# Altium footprint library PowerManagement.PcbLib: 12 footprints
Each footprint in its own frame and in the unit in brackets; x right, y up, seen from the top. Pads: shape width x height; smd on the part's side, far side on the other; paste and mask are expansions set on the pad; w line width, h text height; cw(c..) or ccw(c..) is an arc to the next point about the centre after c.
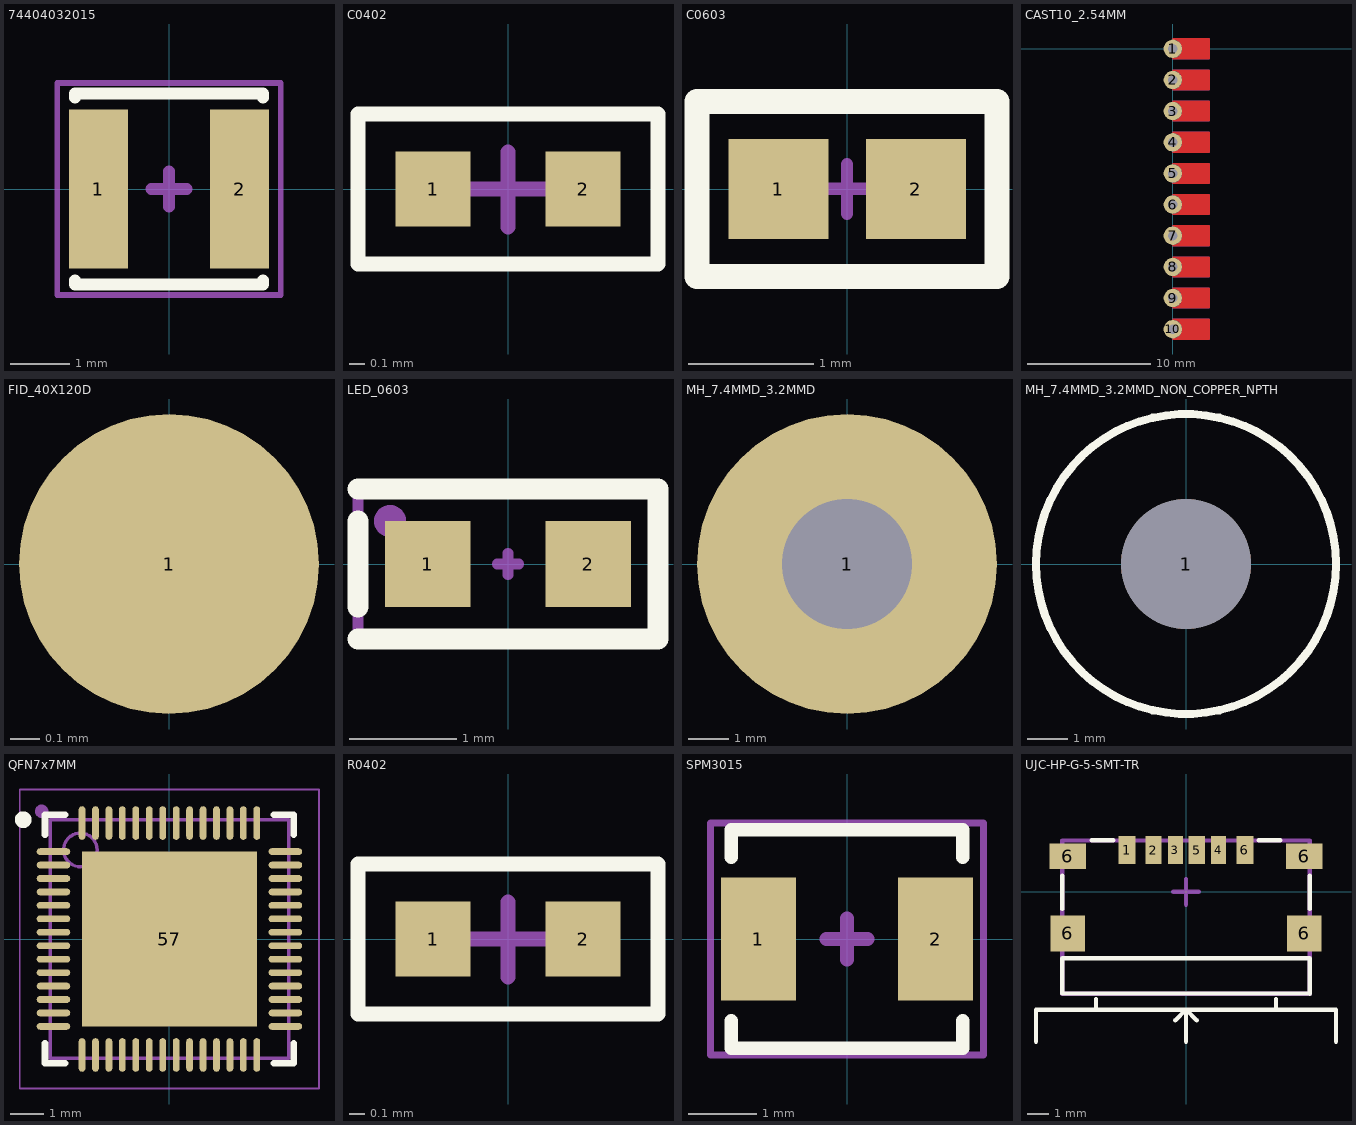
[diagram p0: the footprints below, top view; thin cyan lines are the x and y axes]

## 74404032015 [mm]
pads (2):
  rect 1x2.7 smd: 1(-1.2,0) 2(1.2,0)
Top Overlay:
  lines w0.2: -1.6,-1.55 -1.6,-1.625 -1.5,-1.625 1.5,-1.625 1.6,-1.625 1.6,-1.55 ; -1.6,1.55 -1.6,1.625 -1.5,1.625 1.5,1.625 1.6,1.625 1.6,1.55
Mechanical 15:
  lines w0.1: -1.9,-1.8 1.9,-1.8 1.9,1.8 -1.9,1.8 -1.9,-1.8
  lines w0.2: -0.3,0 0.3,0 ; 0,-0.3 0,0.3
  text "'.Designator'" at 0.1,0.233 h0.4
3D body "o54937v246 WE-LQS_3015_LQS (rev1).stp": height 1.51, standoff 0.01, extent -1.5,-1.5 1.5,1.5

## C0402 [mm]
pads (2):
  rect 0.5x0.5 smd: 1(-0.5,0) 2(0.5,0)
Top Overlay:
  lines w0.1: -1,-0.5 -1,0.5 1,0.5 1,-0.5 -1,-0.5
Mechanical 15:
  lines w0.05: -1,-0.5 1,-0.5 1,0.5 -1,0.5 -1,-0.5
  lines w0.1: -0.246,0 0.254,0 ; 0,-0.254 0,0.246
  text "'.Designator'" at 0.05,0.117 h0.2
3D body "CC0402MRX5R5BB106.step": height 0.55, standoff 0, extent -0.5,-0.25 0.5,0.25

## C0603 [mm]
pads (2):
  rect 0.8x0.8 smd: 1(-0.55,0) 2(0.55,0)
Top Overlay:
  lines w0.2: -1.2,-0.7 1.2,-0.7 1.2,0.7 -1.2,0.7 -1.2,-0.7
Mechanical 15:
  lines w0.05: -1.2,-0.7 1.2,-0.7 1.2,0.7 -1.2,0.7 -1.2,-0.7
  lines w0.1: -0.184,0.001 0.216,0.001 ; 0,-0.2 0,0.2
  text "'.Designator'" at 0.1,0.234 h0.4
3D body "CAPC1608X90N.step": height 0.91, standoff 0.01, extent -0.8,-0.4 0.8,0.4

## CAST10_2.54MM [mm]
pads (10):
  round 1.5 hole 0.76 mask+0: 1(0,0) 2(0,-2.54) 3(0,-5.08) 4(0,-7.62) 5(0,-10.16) 6(0,-12.7) 7(0,-15.24) 8(0,-17.78) 9(0,-20.32) 10(0,-22.86)
Top Layer:
  region: 0,-10.96 2.946,-10.96 2.946,-9.36 0,-9.36 0.104,-9.367 0.306,-9.421 0.487,-9.525 0.635,-9.673 0.739,-9.854 0.793,-10.056 0.793,-10.264 0.739,-10.466 0.635,-10.647 0.487,-10.795 0.306,-10.899 0.104,-10.953
  region: 0,-21.12 2.946,-21.12 2.946,-19.52 0,-19.52 0.104,-19.527 0.306,-19.581 0.487,-19.685 0.635,-19.833 0.739,-20.014 0.793,-20.216 0.793,-20.424 0.739,-20.626 0.635,-20.807 0.487,-20.955 0.306,-21.059 0.104,-21.113
  region: 0,-0.8 2.946,-0.8 2.946,0.8 0,0.8 0.104,0.793 0.306,0.739 0.487,0.635 0.635,0.487 0.739,0.306 0.793,0.104 0.793,-0.104 0.739,-0.306 0.635,-0.487 0.487,-0.635 0.306,-0.739 0.104,-0.793
  region: 0,-3.34 2.946,-3.34 2.946,-1.74 0,-1.74 0.104,-1.747 0.306,-1.801 0.487,-1.905 0.635,-2.053 0.739,-2.234 0.793,-2.436 0.793,-2.644 0.739,-2.846 0.635,-3.027 0.487,-3.175 0.306,-3.279 0.104,-3.333
  region: 0,-5.88 2.946,-5.88 2.946,-4.28 0,-4.28 0.104,-4.287 0.306,-4.341 0.487,-4.445 0.635,-4.593 0.739,-4.774 0.793,-4.976 0.793,-5.184 0.739,-5.386 0.635,-5.567 0.487,-5.715 0.306,-5.819 0.104,-5.873
  region: 0,-8.42 2.946,-8.42 2.946,-6.82 0,-6.82 0.104,-6.827 0.306,-6.881 0.487,-6.985 0.635,-7.133 0.739,-7.314 0.793,-7.516 0.793,-7.724 0.739,-7.926 0.635,-8.107 0.487,-8.255 0.306,-8.359 0.104,-8.413
  region: 0,-13.5 2.946,-13.5 2.946,-11.9 0,-11.9 0.104,-11.907 0.306,-11.961 0.487,-12.065 0.635,-12.213 0.739,-12.394 0.793,-12.596 0.793,-12.804 0.739,-13.006 0.635,-13.187 0.487,-13.335 0.306,-13.439 0.104,-13.493
  region: 0,-16.04 2.946,-16.04 2.946,-14.44 0,-14.44 0.104,-14.447 0.306,-14.501 0.487,-14.605 0.635,-14.753 0.739,-14.934 0.793,-15.136 0.793,-15.344 0.739,-15.546 0.635,-15.727 0.487,-15.875 0.306,-15.979 0.104,-16.033
  region: 0,-18.58 2.946,-18.58 2.946,-16.98 0,-16.98 0.104,-16.987 0.306,-17.041 0.487,-17.145 0.635,-17.293 0.739,-17.474 0.793,-17.676 0.793,-17.884 0.739,-18.086 0.635,-18.267 0.487,-18.415 0.306,-18.519 0.104,-18.573
  region: 0,-23.66 2.946,-23.66 2.946,-22.06 0,-22.06 0.104,-22.067 0.306,-22.121 0.487,-22.225 0.635,-22.373 0.739,-22.554 0.793,-22.756 0.793,-22.964 0.739,-23.166 0.635,-23.347 0.487,-23.495 0.306,-23.599 0.104,-23.653
  lines w0.127: 0,-23.66 ccw(c0,-22.86) 0,-22.06 2.946,-22.06 2.946,-23.66 0,-23.66 ; 0,-21.12 ccw(c0,-20.32) 0,-19.52 2.946,-19.52 2.946,-21.12 0,-21.12 ; 0,-18.58 ccw(c0,-17.78) 0,-16.98 2.946,-16.98 2.946,-18.58 0,-18.58 ; 0,-16.04 ccw(c0,-15.24) 0,-14.44 2.946,-14.44 2.946,-16.04 0,-16.04 ; 0,-13.5 ccw(c0,-12.7) 0,-11.9 2.946,-11.9 2.946,-13.5 0,-13.5 ; 0,-10.96 ccw(c0,-10.16) 0,-9.36 2.946,-9.36 2.946,-10.96 0,-10.96 ; 0,-8.42 ccw(c0,-7.62) 0,-6.82 2.946,-6.82 2.946,-8.42 0,-8.42 ; 0,-5.88 ccw(c0,-5.08) 0,-4.28 2.946,-4.28 2.946,-5.88 0,-5.88 ; 0,-3.34 ccw(c0,-2.54) 0,-1.74 2.946,-1.74 2.946,-3.34 0,-3.34 ; 0,-0.8 ccw(c0,0) 0,0.8 2.946,0.8 2.946,-0.8 0,-0.8
Bottom Layer:
  region: 0,0.8 2.946,0.8 2.946,-0.8 0,-0.8 0.104,-0.793 0.306,-0.739 0.487,-0.635 0.635,-0.487 0.739,-0.306 0.793,-0.104 0.793,0.104 0.739,0.306 0.635,0.487 0.487,0.635 0.306,0.739 0.104,0.793
  region: 0,-4.28 2.946,-4.28 2.946,-5.88 0,-5.88 0.104,-5.873 0.306,-5.819 0.487,-5.715 0.635,-5.567 0.739,-5.386 0.793,-5.184 0.793,-4.976 0.739,-4.774 0.635,-4.593 0.487,-4.445 0.306,-4.341 0.104,-4.287
  region: 0,-6.82 2.946,-6.82 2.946,-8.42 0,-8.42 0.104,-8.413 0.306,-8.359 0.487,-8.255 0.635,-8.107 0.739,-7.926 0.793,-7.724 0.793,-7.516 0.739,-7.314 0.635,-7.133 0.487,-6.985 0.306,-6.881 0.104,-6.827
  region: 0,-9.36 2.946,-9.36 2.946,-10.96 0,-10.96 0.104,-10.953 0.306,-10.899 0.487,-10.795 0.635,-10.647 0.739,-10.466 0.793,-10.264 0.793,-10.056 0.739,-9.854 0.635,-9.673 0.487,-9.525 0.306,-9.421 0.104,-9.367
  region: 0,-11.9 2.946,-11.9 2.946,-13.5 0,-13.5 0.104,-13.493 0.306,-13.439 0.487,-13.335 0.635,-13.187 0.739,-13.006 0.793,-12.804 0.793,-12.596 0.739,-12.394 0.635,-12.213 0.487,-12.065 0.306,-11.961 0.104,-11.907
  region: 0,-14.44 2.946,-14.44 2.946,-16.04 0,-16.04 0.104,-16.033 0.306,-15.979 0.487,-15.875 0.635,-15.727 0.739,-15.546 0.793,-15.344 0.793,-15.136 0.739,-14.934 0.635,-14.753 0.487,-14.605 0.306,-14.501 0.104,-14.447
  region: 0,-16.98 2.946,-16.98 2.946,-18.58 0,-18.58 0.104,-18.573 0.306,-18.519 0.487,-18.415 0.635,-18.267 0.739,-18.086 0.793,-17.884 0.793,-17.676 0.739,-17.474 0.635,-17.293 0.487,-17.145 0.306,-17.041 0.104,-16.987
  region: 0,-19.52 2.946,-19.52 2.946,-21.12 0,-21.12 0.104,-21.113 0.306,-21.059 0.487,-20.955 0.635,-20.807 0.739,-20.626 0.793,-20.424 0.793,-20.216 0.739,-20.014 0.635,-19.833 0.487,-19.685 0.306,-19.581 0.104,-19.527
  region: 0,-22.06 2.946,-22.06 2.946,-23.66 0,-23.66 0.104,-23.653 0.306,-23.599 0.487,-23.495 0.635,-23.347 0.739,-23.166 0.793,-22.964 0.793,-22.756 0.739,-22.554 0.635,-22.373 0.487,-22.225 0.306,-22.121 0.104,-22.067
  region: 0,-1.74 2.946,-1.74 2.946,-3.34 0,-3.34 0.104,-3.333 0.306,-3.279 0.487,-3.175 0.635,-3.027 0.739,-2.846 0.793,-2.644 0.793,-2.436 0.739,-2.234 0.635,-2.053 0.487,-1.905 0.306,-1.801 0.104,-1.747
  lines w0.127: 0,-23.66 ccw(c0,-22.86) 0,-22.06 2.946,-22.06 2.946,-23.66 0,-23.66 ; 0,-21.12 ccw(c0,-20.32) 0,-19.52 2.946,-19.52 2.946,-21.12 0,-21.12 ; 0,-18.58 ccw(c0,-17.78) 0,-16.98 2.946,-16.98 2.946,-18.58 0,-18.58 ; 0,-16.04 ccw(c0,-15.24) 0,-14.44 2.946,-14.44 2.946,-16.04 0,-16.04 ; 0,-13.5 ccw(c0,-12.7) 0,-11.9 2.946,-11.9 2.946,-13.5 0,-13.5 ; 0,-10.96 ccw(c0,-10.16) 0,-9.36 2.946,-9.36 2.946,-10.96 0,-10.96 ; 0,-8.42 ccw(c0,-7.62) 0,-6.82 2.946,-6.82 2.946,-8.42 0,-8.42 ; 0,-5.88 ccw(c0,-5.08) 0,-4.28 2.946,-4.28 2.946,-5.88 0,-5.88 ; 0,-3.34 ccw(c0,-2.54) 0,-1.74 2.946,-1.74 2.946,-3.34 0,-3.34 ; 0,-0.8 ccw(c0,0) 0,0.8 2.946,0.8 2.946,-0.8 0,-0.8

## FID_40X120D [mil]
pads (1):
  round 40 smd paste-40 mask+40: 1(0,0)

## LED_0603 [mm]
pads (2):
  rect 0.8x0.8 smd: 1(-0.75,0) 2(0.75,0)
Top Overlay:
  lines w0.2: -1.4,-0.7 1.4,-0.7 1.4,0.7 -1.4,0.7 ; -1.4,-0.4 -1.4,0.4
Mechanical 15:
  circle w0.2: c-1.1,0.4 r0.05
  lines w0.1: -0.1,0 0.1,0 ; 0,-0.1 0,0.1 ; -1.4,-0.7 1.4,-0.7 1.4,0.7 -1.4,0.7 -1.4,-0.7
  text "'.Designator'" at 0.1,0.217 h0.35
3D body "KG_EELP41_22_20241230_geometry.STEP": height 0.37, standoff 0.01, extent -0.8,-0.4 0.8,0.4

## MH_7.4MMD_3.2MMD [mm]
pads (1):
  round 7.4 hole 3.2: 1(0,0)

## MH_7.4MMD_3.2MMD_NON_COPPER_NPTH [mm]
pads (1):
  round 3.2 hole 3.2 unplated: 1(0,0)
Top Overlay:
  circle w0.2: c0,0 r3.7

## QFN7x7MM [mm]
height 0.8
pads (57):
  oval 1x0.2 smd: 1(-3.45,2.6) 2(-3.45,2.2) 3(-3.45,1.8) 4(-3.45,1.4) 5(-3.45,1) 6(-3.45,0.6) 7(-3.45,0.2) 8(-3.45,-0.2) 9(-3.45,-0.6) 10(-3.45,-1) 11(-3.45,-1.4) 12(-3.45,-1.8) 13(-3.45,-2.2) 14(-3.45,-2.6) 29(3.45,-2.6) 30(3.45,-2.2) 31(3.45,-1.8) 32(3.45,-1.4) 33(3.45,-1) 34(3.45,-0.6) 35(3.45,-0.2) 36(3.45,0.2) 37(3.45,0.6) 38(3.45,1) 39(3.45,1.4) 40(3.45,1.8) 41(3.45,2.2) 42(3.45,2.6)
  oval 0.2x1 smd: 15(-2.6,-3.45) 16(-2.2,-3.45) 17(-1.8,-3.45) 18(-1.4,-3.45) 19(-1,-3.45) 20(-0.6,-3.45) 21(-0.2,-3.45) 22(0.2,-3.45) 23(0.6,-3.45) 24(1,-3.45) 25(1.4,-3.45) 26(1.8,-3.45) 27(2.2,-3.45) 28(2.6,-3.45) 43(2.6,3.45) 44(2.2,3.45) 45(1.8,3.45) 46(1.4,3.45) 47(1,3.45) 48(0.6,3.45) 49(0.2,3.45) 50(-0.2,3.45) 51(-0.6,3.45) 52(-1,3.45) 53(-1.4,3.45) 54(-1.8,3.45) 55(-2.2,3.45) 56(-2.6,3.45)
  rect 5.2x5.2 smd: 57(0,0)
Top Overlay:
  circle w0.25: c-4.35,3.55 r0.125
  lines w0.2: -3.7,-3.1 -3.7,-3.7 -3.1,-3.7 ; -3.7,3.1 -3.7,3.7 -3.1,3.7 ; 3.1,-3.7 3.7,-3.7 3.7,-3.1 ; 3.1,3.7 3.7,3.7 3.7,3.1
Mechanical 13:
  circle w0.1: c-2.65,2.65 r0.5
  lines w0.1: -3.55,-3.55 3.55,-3.55 3.55,3.55 -3.55,3.55 -3.55,-3.55
Mechanical 15:
  circle w0.2: c-3.8,3.8 r0.1
  lines w0.05: -4.45,-4.45 4.45,-4.45 4.45,4.45 -4.45,4.45 -4.45,-4.45
  lines w0.1: -0.5,0 0.5,0 ; 0,-0.5 0,0.5
  text "'.Designator'" at 0.2,0.533 h1
3D body "QFN7x7MM.step": height 0.8, standoff 0, extent -3.551,-3.551 3.551,3.551

## R0402 [mm]
pads (2):
  rect 0.5x0.5 smd: 1(-0.5,0) 2(0.5,0)
Top Overlay:
  lines w0.1: -1,-0.5 -1,0.5 1,0.5 1,-0.5 -1,-0.5
Mechanical 15:
  lines w0.05: -1,-0.5 -1,0.5 1,0.5 1,-0.5 -1,-0.5
  lines w0.1: -0.246,0 0.254,0 ; 0,-0.254 0,0.246
  text "'.Designator'" at 0.05,0.117 h0.2
3D body "RC0402FR-1320KL.step": height 0.41, standoff 0.01, extent -0.5,-0.25 0.5,0.25

## SPM3015 [mm]
pads (2):
  rect 1.1x1.8 smd: 1(-1.3,0) 2(1.3,0)
Top Overlay:
  lines w0.2: -1.7,-1.2 -1.7,-1.6 1.7,-1.6 1.7,-1.2 ; -1.7,1.2 -1.7,1.6 1.7,1.6 1.7,1.2
Mechanical 15:
  lines w0.1: -2,-1.7 -2,1.7 2,1.7 2,-1.7 -2,-1.7
  lines w0.2: -0.3,0 0.3,0 ; 0,-0.3 0,0.3
  text "'.Designator'" at 0.1,0.233 h0.4
3D body "SPM3015T-1R5M.STEP": height 1.51, standoff 0.01, extent -1.6,-1.5 1.6,1.5

## UJC-HP-G-5-SMT-TR [mm]
pads (10):
  rect 0.8x1.3 smd: 1(-2.75,1.945) 6(2.75,1.945)
  rect 0.76x1.3 smd: 2(-1.52,1.945) 5(0.5,1.945)
  rect 0.7x1.3 smd: 3(-0.5,1.945) 4(1.52,1.945)
  rect 1.6x1.7 smd: 6(-5.52,-1.945) 6(5.52,-1.945)
  rect 1.7x1.2 smd: 6(-5.52,1.655) 6(5.52,1.655)
Top Overlay:
  lines w0.2: -7,-7 -7,-5.5 -5.775,-5.5 5.775,-5.5 7,-5.5 7,-7 ; -5.775,-0.8 -5.775,0.75 ; -4.4,2.4 -3.4,2.4 ; -4.2,-5.5 -4.2,-5 ; 0,-7 0,-5.5 ; 0.5,-6 0,-5.5 ; 3.4,2.4 4.4,2.4 ; 4.2,-5.5 4.2,-5 ; 5.775,-0.8 5.775,0.75 ; 5.778,-4.753 5.775,-4.75 ; 0,-5.5 0,-5.5 ; 0,-5.5 -0.5,-6 0,-5.5 ; 5.775,-4.75 -5.775,-4.75 -5.775,-3.1 5.775,-3.1 5.775,-4.75 ; 5.775,-4.75 5.775,-4.75
Mechanical 15:
  lines w0.2: -0.6,0 0.6,0 ; 0,-0.6 0,0.6 ; -5.775,-4.755 -5.775,2.395 5.775,2.395 5.775,-4.755 -5.775,-4.755
  text "'.Designator'" at 0.2,0.533 h1
3D body "UJC-HP-G-5-SMT-TR.STEP": height 3.17, standoff -0.04, extent -5.77,-4.75 5.77,2.39